# Altium footprint library Modulator_pLib.PcbLib: 8 footprints
Each footprint in its own frame and in the unit in brackets; x right, y up, seen from the top. Pads: shape width x height; smd on the part's side, far side on the other; paste and mask are expansions set on the pad; w line width, h text height; cw(c..) or ccw(c..) is an arc to the next point about the centre after c.
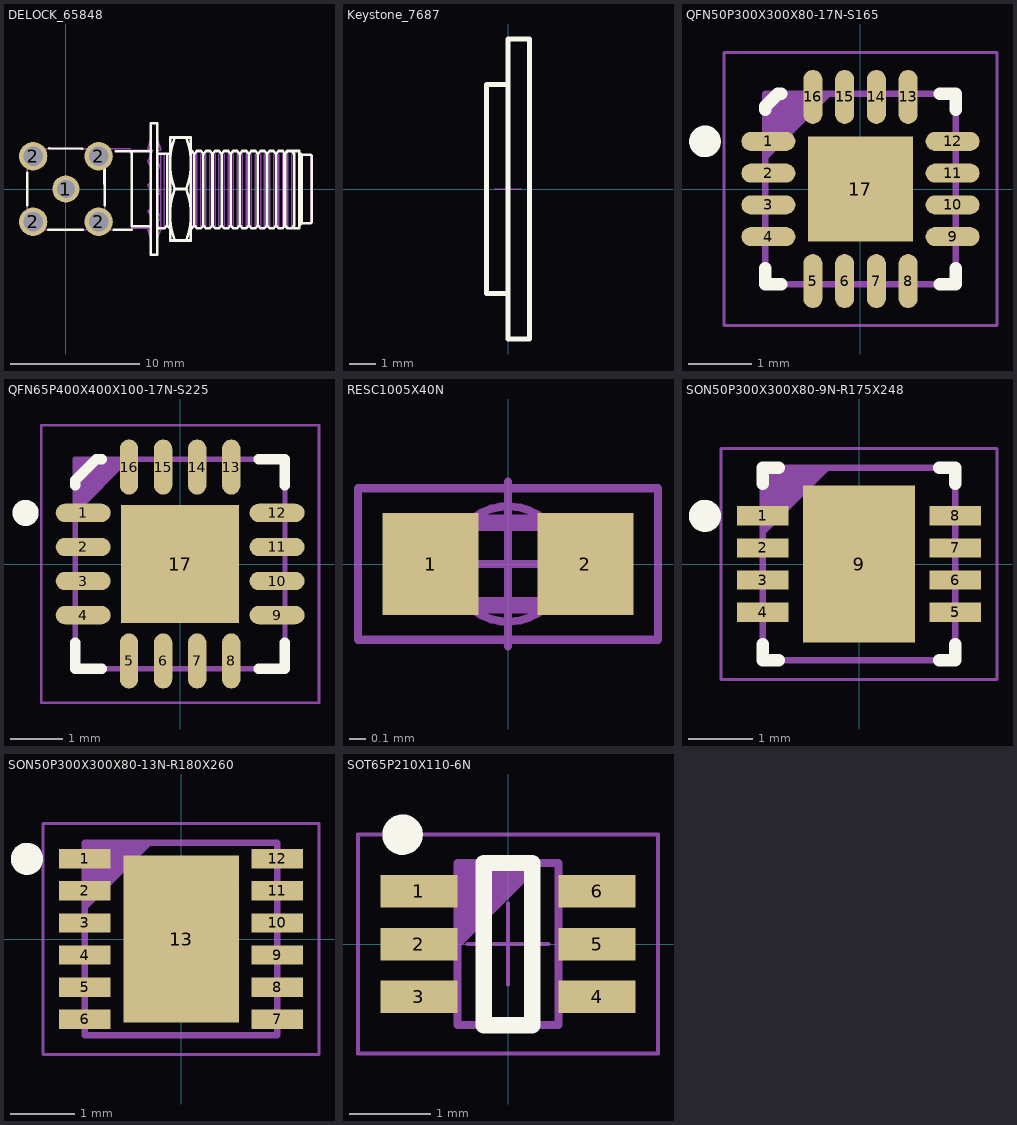
[diagram p0: the footprints below, top view; thin cyan lines are the x and y axes]

## DELOCK_65848 [mm] "50 Ohm Through Hole SMA Right Angle PCB Jack"
height 12.4
pads (5):
  round 2.1 hole 1.4: 1(0,0)
  round 2.2 hole 1.5: 2(-2.54,-2.54) 2(-2.54,2.54) 2(2.54,-2.54) 2(2.54,2.54)
Top Overlay:
  lines w0.2: -3,-1.25 -3,1.248 ; -1.359,-3.148 1.324,-3.148 ; -1.295,3.148 1.27,3.134 ; 2.975,3.175 3.06,3.175 ; 3,1.95 3.025,-1.265 ; 3.734,-3.148 5.1,-3.148 ; 3.873,2.925 6.6,2.925 ; 5.1,2.925 5.1,-2.9 6.6,-2.9 ; 7.1,-3.05 7.655,-3.05 7.855,-2.825 ; 7.1,2.75 8.1,2.75 ; 7.855,2.75 7.855,-2.825 ; 8.1,-3.05 8.056,-3.05 7.855,-2.825 ; 8.457,-4 cw(c13.877,-2) 8.457,0 ; 8.457,4 ccw(c13.877,2) 8.457,0 ; 9.343,-4 ccw(c3.923,-2) 9.343,0 ; 9.343,4 cw(c3.923,2) 9.343,0 ; 9.7,-3.05 9.771,-3.05 9.972,-2.825 ; 9.7,2.95 9.771,2.95 9.972,2.725 10.173,2.95 10.477,2.95 10.678,2.725 10.878,2.95 11.182,2.95 11.383,2.725 11.584,2.95 11.888,2.95 12.089,2.725 12.289,2.95 12.593,2.95 12.794,2.725 12.995,2.95 13.299,2.95 13.5,2.725 13.701,2.95 14.005,2.95 14.205,2.725 14.406,2.95 14.71,2.95 14.911,2.725 15.112,2.95 15.416,2.95 15.616,2.725 15.817,2.95 16.121,2.95 16.322,2.725 16.523,2.95 16.827,2.95 17.028,2.725 17.228,2.95 17.532,2.95 17.733,2.725 ; 9.972,2.75 9.972,-2.825 ; 10.678,2.75 10.678,-2.825 ; 11.383,2.75 11.383,-2.825 ; 12.089,2.75 12.089,-2.825 ; 12.794,2.75 12.794,-2.825 ; 13.5,2.75 13.5,-2.825 ; 14.205,2.75 14.205,-2.825 ; 14.911,2.75 14.911,-2.825 ; 15.616,2.75 15.616,-2.825 ; 16.322,2.75 16.322,-2.825 ; 16.972,2.725 17.173,2.95 18.107,2.95 18.107,-2.85 ; 16.972,2.75 16.972,-2.825 17.173,-3.05 18.107,-3.05 18.107,2.75 ; 17.028,2.75 17.028,-2.825 ; 17.733,2.75 17.733,-2.825 17.532,-3.05 17.228,-3.05 17.028,-2.825 ; 18.107,-2.858 18.3,-2.675 18.3,2.675 18.221,2.75 ; 18.3,-2.665 19,-2.665 19.1,-2.565 19.1,2.565 19,2.665 18.3,2.665 ; 8.457,0 9.343,0 ; 9.972,-2.825 10.173,-3.05 10.477,-3.05 10.678,-2.825 ; 10.678,-2.825 10.878,-3.05 11.182,-3.05 11.383,-2.825 ; 11.383,-2.825 11.584,-3.05 11.888,-3.05 12.089,-2.825 ; 12.089,-2.825 12.289,-3.05 12.593,-3.05 12.794,-2.825 ; 12.794,-2.825 12.995,-3.05 13.299,-3.05 13.5,-2.825 ; 13.5,-2.825 13.701,-3.05 14.005,-3.05 14.205,-2.825 ; 14.205,-2.825 14.406,-3.05 14.71,-3.05 14.911,-2.825 ; 14.911,-2.825 15.112,-3.05 15.416,-3.05 15.616,-2.825 ; 15.616,-2.825 15.817,-3.05 16.121,-3.05 16.322,-2.825 ; 16.322,-2.825 16.523,-3.05 16.827,-3.05 17.028,-2.825 ; 6.6,-5.1 7.1,-5.1 7.1,5.1 6.6,5.1 6.6,-5.1 ; 8.1,-4 9.7,-4 9.7,4 8.1,4 8.1,-4
Mechanical 8:
  lines w0.1: -3.2,-2.03 -2.03,-2.03 ; -3.2,2.03 -2.03,2.03 ; -3.04,-2.54 -2.54,-2.54 ; -3.04,2.54 -2.54,2.54 ; -2.54,-3.04 -2.54,-2.54 ; -2.54,-2.04 -2.54,-2.54 ; -2.54,2.04 -2.54,2.54 ; -2.54,3.04 -2.54,2.54 ; -2.04,-2.54 -2.54,-2.54 ; -2.04,2.54 -2.54,2.54 ; -0.5,0 0,0 ; 0,-0.5 0,0 ; 0,0.5 0,0 ; 0.5,0 0,0 ; 2.03,2.03 3,2.03 ; 2.04,-2.54 2.54,-2.54 ; 2.04,2.54 2.54,2.54 ; 2.54,-3.04 2.54,-2.54 ; 2.54,-2.04 2.54,-2.54 ; 2.54,2.04 2.54,2.54 ; 2.54,3.04 2.54,2.54 ; 3.04,-2.54 2.54,-2.54 ; 3.04,2.54 2.54,2.54
Mechanical 14:
  drawing of 155 lines, arcs and shapes, not listed
3D body "SMA_Delock_65848.step": height 9.15, standoff -2.99, extent -3.04,-3.174 18.96,3.094

## Keystone_7687 [mm] "Polyphenylene Sulfide PPS Shoulder Washer"
height 8
Top Overlay:
  lines w0.2: 0,-3.9 -0.8,-3.9 -0.8,3.9 0,3.9 ; 0,-5.6 0.8,-5.6 0.8,5.6 0,5.6 0,-5.6
Mechanical 8:
  lines w0.05: -0.5,0 0,0 ; 0,-0.5 0,0 ; 0,0.5 0,0 ; 0.5,0 0,0
Mechanical 14:
  lines w0.1: 0,-3.9 -0.8,-3.9 -0.8,3.9 0,3.9 ; 0,-5.6 0.8,-5.6 0.8,5.6 0,5.6 0,-5.6

## QFN50P300X300X80-17N-S165 [mm] "QFN, 0.50mm pitch,square; 4 pin X 4 pin, 3mm X 3mm X 0.80mm H body (w/thermal tab 1.65 X 1.65mm),  IPC Medium Density"
height 0.8
pads (17):
  oval 0.85x0.3 smd: 1(-1.45,0.75) 2(-1.45,0.25) 3(-1.45,-0.25) 4(-1.45,-0.75) 9(1.45,-0.75) 10(1.45,-0.25) 11(1.45,0.25) 12(1.45,0.75)
  oval 0.3x0.85 smd: 5(-0.75,-1.45) 6(-0.25,-1.45) 7(0.25,-1.45) 8(0.75,-1.45) 13(0.75,1.45) 14(0.25,1.45) 15(-0.25,1.45) 16(-0.75,1.45)
  rect 1.65x1.65 smd: 17(0,0)
Top Overlay:
  circle w0.25: c-2.45,0.75 r0.125
  lines w0.2: -1.5,-1.25 -1.5,-1.5 -1.25,-1.5 ; -1.5,1.25 -1.5,1.3 -1.3,1.5 -1.25,1.5 ; 1.25,-1.5 1.5,-1.5 1.5,-1.25 ; 1.25,1.5 1.5,1.5 1.5,1.25
Mechanical 14:
  lines w0.1: -1.5,0.5 -0.5,1.5 ; -1.5,0.6 -0.6,1.5 ; -1.5,0.7 -0.7,1.5 ; -1.5,0.8 -0.8,1.5 ; -1.5,0.9 -0.9,1.5 ; -1.5,1 -1,1.5 ; -1.5,1.1 -1.1,1.5 ; -1.5,1.2 -1.2,1.5 ; -1.5,1.3 -1.3,1.5 ; -1.5,1.4 -1.4,1.5 ; -1.5,-1.5 1.5,-1.5 1.5,1.5 -1.5,1.5 -1.5,-1.5
Mechanical 15:
  lines w0.05: -0.5,0 0.5,0 ; 0,-0.5 0,0.5 ; -2.15,-2.15 2.15,-2.15 2.15,2.15 -2.15,2.15 -2.15,-2.15
3D body "QFN50P300X300X80-17N-S155.stp": height 0.8, standoff 0, extent -1.575,-1.575 1.575,1.575

## QFN65P400X400X100-17N-S225 [mm] "QFN, 0.65mm pitch,square; 4 pin X 4 pin, 4mm X 4mm X 1mm H body (w/thermal tab 2.25 X 2.25mm),  IPC Medium Density"
height 1
pads (17):
  oval 1.05x0.35 smd: 1(-1.85,0.975) 2(-1.85,0.325) 3(-1.85,-0.325) 4(-1.85,-0.975) 9(1.85,-0.975) 10(1.85,-0.325) 11(1.85,0.325) 12(1.85,0.975)
  oval 0.35x1.05 smd: 5(-0.975,-1.85) 6(-0.325,-1.85) 7(0.325,-1.85) 8(0.975,-1.85) 13(0.975,1.85) 14(0.325,1.85) 15(-0.325,1.85) 16(-0.975,1.85)
  rect 2.25x2.25 smd: 17(0,0)
Top Overlay:
  circle w0.25: c-2.95,0.975 r0.125
  lines w0.2: -2,-1.5 -2,-2 -1.5,-2 ; -2,1.5 -2,1.6 -1.6,2 -1.5,2 ; 1.5,-2 2,-2 2,-1.5 ; 1.5,2 2,2 2,1.5
Mechanical 14:
  lines w0.1: -2,1 -1,2 ; -2,1.1 -1.1,2 ; -2,1.2 -1.2,2 ; -2,1.3 -1.3,2 ; -2,1.4 -1.4,2 ; -2,1.5 -1.5,2 ; -2,1.6 -1.6,2 ; -2,1.7 -1.7,2 ; -2,1.8 -1.8,2 ; -2,1.9 -1.9,2 ; -2,-2 2,-2 2,2 -2,2 -2,-2
Mechanical 15:
  lines w0.05: -0.5,0 0.5,0 ; 0,-0.5 0,0.5 ; -2.65,-2.65 2.65,-2.65 2.65,2.65 -2.65,2.65 -2.65,-2.65
3D body "QFN65P400X400X100-17N-S225.stp": height 1, standoff 0, extent -2,-2 2,2

## RESC1005X40N [mm] "Chip Resistor, EIA 0402, Metric 1005, Body 1.0x0.5mm, IPC Medium Density"
height 0.4
pads (2):
  rect 0.58x0.62 smd: 1(-0.47,0) 2(0.47,0)
Mechanical 14:
  lines w0.1: -0.5,-0.25 -0.5,0.25 0.5,0.25 0.5,-0.25 -0.5,-0.25
Mechanical 15:
  circle w0.05: c0,0 r0.35
  lines w0.05: -0.5,0 0.5,0 ; 0,-0.5 0,0.5 ; -0.91,-0.46 -0.91,0.46 0.91,0.46 0.91,-0.46 -0.91,-0.46
3D body "RESC1005X40N.stp": height 0.4, standoff 0, extent -0.525,-0.275 0.525,0.275

## SON50P300X300X80-9N-R175X248 [mm] "SON, (DFN) 0.50mm,pitch; 8 pin,3.00mm W X 3.00mm L X 0.80mm H body (w/thermal tab 1.75 X2.48mm), IPC Medium Density"
height 0.8
pads (9):
  rect 0.8x0.3 smd: 1(-1.5,0.75) 2(-1.5,0.25) 3(-1.5,-0.25) 4(-1.5,-0.75) 5(1.5,-0.75) 6(1.5,-0.25) 7(1.5,0.25) 8(1.5,0.75)
  rect 1.75x2.45 smd: 9(0,0)
Top Overlay:
  circle w0.25: c-2.4,0.75 r0.125
  lines w0.2: -1.5,-1.25 -1.5,-1.5 -1.25,-1.5 ; -1.5,1.25 -1.5,1.5 -1.25,1.5 ; 1.25,-1.5 1.5,-1.5 1.5,-1.25 ; 1.25,1.5 1.5,1.5 1.5,1.25
Mechanical 14:
  lines w0.1: -1.5,0.5 -0.5,1.5 ; -1.5,0.6 -0.6,1.5 ; -1.5,0.7 -0.7,1.5 ; -1.5,0.8 -0.8,1.5 ; -1.5,0.9 -0.9,1.5 ; -1.5,1 -1,1.5 ; -1.5,1.1 -1.1,1.5 ; -1.5,1.2 -1.2,1.5 ; -1.5,1.3 -1.3,1.5 ; -1.5,1.4 -1.4,1.5 ; -1.5,-1.5 -1.5,1.5 1.5,1.5 1.5,-1.5 -1.5,-1.5
Mechanical 15:
  lines w0.05: -0.5,0 0.5,0 ; 0,-0.5 0,0.5 ; -2.15,-1.8 2.15,-1.8 2.15,1.8 -2.15,1.8 -2.15,-1.8
3D body "SON50P300X300X80-9N-R175X248.stp": height 0.8, standoff 0, extent -1.55,-1.55 1.55,1.55

## SON50P300X300X80-13N-R180X260 [mm] "SON, 0.50mm Pitch, 12-Pin, 3.00mm W  X 3.00mm L X 0.80mm Height, (w/Thermal Tab 1.8 X 2.6 mm), IPC Medium Density"
height 0.8
pads (13):
  rect 0.8x0.3 smd: 1(-1.5,1.25) 2(-1.5,0.75) 3(-1.5,0.25) 4(-1.5,-0.25) 5(-1.5,-0.75) 6(-1.5,-1.25) 7(1.5,-1.25) 8(1.5,-0.75) 9(1.5,-0.25) 10(1.5,0.25) 11(1.5,0.75) 12(1.5,1.25)
  rect 1.8x2.6 smd: 13(0,0)
Top Overlay:
  circle w0.25: c-2.4,1.25 r0.125
Mechanical 14:
  lines w0.1: -1.5,0.5 -0.5,1.5 ; -1.5,0.6 -0.6,1.5 ; -1.5,0.7 -0.7,1.5 ; -1.5,0.8 -0.8,1.5 ; -1.5,0.9 -0.9,1.5 ; -1.5,1 -1,1.5 ; -1.5,1.1 -1.1,1.5 ; -1.5,1.2 -1.2,1.5 ; -1.5,1.3 -1.3,1.5 ; -1.5,1.4 -1.4,1.5 ; -1.5,-1.5 -1.5,1.5 1.5,1.5 1.5,-1.5 -1.5,-1.5
Mechanical 15:
  circle w0.05: c0,0 r0.35
  lines w0.05: -0.5,0 0.5,0 ; 0,-0.5 0,0.5 ; -2.15,-1.8 2.15,-1.8 2.15,1.8 -2.15,1.8 -2.15,-1.8
3D body "SON50P300X300X80-13N-R180X260.stp": height 0.8, standoff 0, extent -1.55,-1.55 1.55,1.55

## SOT65P210X110-6N [mm] "SOT363, SC70-6, SOT, 0.65mm Pitch, 6 Pin, 1.25mm W X 2.00mm L X 1.10mm H, IPC Medium Density"
height 1.1
pads (6):
  rect 0.95x0.4 smd: 1(-1.1,0.65) 2(-1.1,0) 3(-1.1,-0.65) 4(1.1,-0.65) 5(1.1,0) 6(1.1,0.65)
Top Overlay:
  circle w0.25: c-1.3,1.35 r0.125
  lines w0.2: -0.3,-1 -0.3,1 0.3,1 0.3,-1 -0.3,-1
Mechanical 14:
  lines w0.1: -0.625,0 0.375,1 ; -0.625,0.1 0.275,1 ; -0.625,0.2 0.175,1 ; -0.625,0.3 0.075,1 ; -0.625,0.4 -0.025,1 ; -0.625,0.5 -0.125,1 ; -0.625,0.6 -0.225,1 ; -0.625,0.7 -0.325,1 ; -0.625,0.8 -0.425,1 ; -0.625,0.9 -0.525,1 ; -0.625,-1 -0.625,1 0.625,1 0.625,-1 -0.625,-1
Mechanical 15:
  lines w0.05: -0.5,0 0.5,0 ; 0,-0.5 0,0.5 ; -1.85,-1.35 -1.85,1.35 1.85,1.35 1.85,-1.35 -1.85,-1.35
3D body "SOT65P210X110-6N.stp": height 1.1, standoff 0, extent -1.2,-1.1 1.2,1.1